# EAGLE library part LM66200 (library pimoroni-ics)
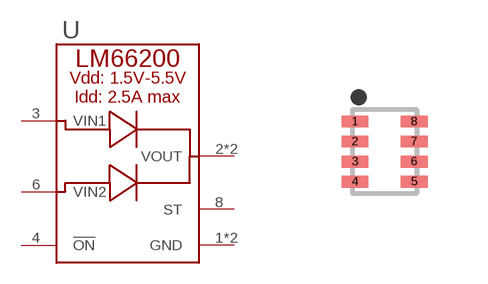
[diagram p183: symbol with the pads of SOT-5X3; footprint SOT-5X3]

Designator prefix U

## LM66200  [SOT-5X3]
1  GND
2  VOUT
3  VIN1
4  !ON
5  GND
6  VIN2
7  VOUT
8  ST

## Footprint SOT-5X3 (pad centres in mm)
smd 0.67 x 0.3: 1 -0.74,0.75; 2 -0.74,0.25; 3 -0.74,-0.25; 4 -0.74,-0.75; 5 0.74,-0.75; 6 0.74,-0.25; 7 0.74,0.25; 8 0.74,0.75